# EAGLE library part WM8960CGEFL_V (library vikc-ic)
WOLFSON MICROELECTRONICS - WM8960CGEFL/V - AUDIO CODEC, 24BIT, 48KSPS, QFN-32 Source: Datasheet <https://componentsearchengine.com/Datasheets/2/WM8960CGEFL_V.pdf>
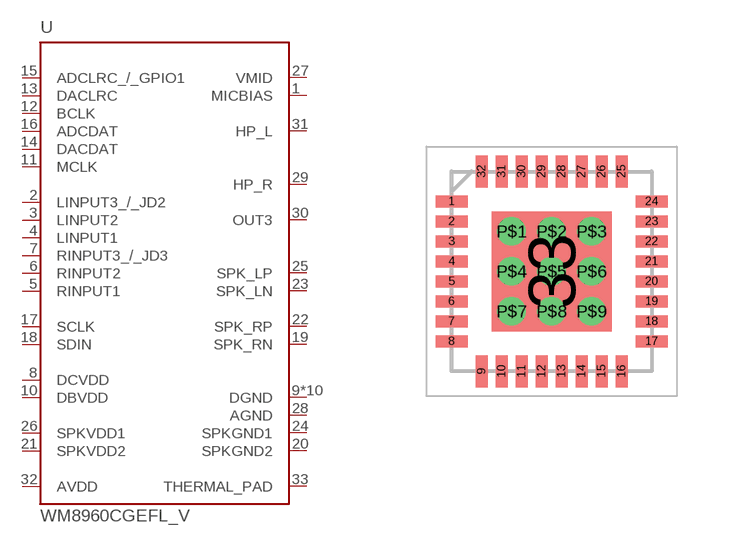
[diagram p8: symbol with the pads of QFN50P500X500X100-33N; footprint QFN50P500X500X100-33N]

Designator prefix U

## WM8960CGEFL_V (ARROW_PART_NUMBER: WM8960CGEFL/V; DESCRIPTION: WOLFSON MICROELECTRONICS - WM8960CGEFL/V - AUDIO CODEC, 24BIT, 48KSPS, QFN-32; HEIGHT: 1mm; MANUFACTURER_NAME: WOLFSON MICROELECTRONICS; MANUFACTURER_PART_NUMBER: WM8960CGEFL/V)  [QFN50P500X500X100-33N]
1  MICBIAS  out
2  LINPUT3_/_JD2  in
3  LINPUT2  in
4  LINPUT1  in
5  RINPUT1  in
6  RINPUT2  in
7  RINPUT3_/_JD3  in
8  DCVDD  pwr
9  DGND  pwr
10  DBVDD  pwr
11  MCLK  in
12  BCLK
13  DACLRC
14  DACDAT  in
15  ADCLRC_/_GPIO1
16  ADCDAT  out
17  SCLK  in
18  SDIN
19  SPK_RN  out
20  SPKGND2  pwr
21  SPKVDD2  pwr
22  SPK_RP  out
23  SPK_LN  out
24  SPKGND1  pwr
25  SPK_LP  out
26  SPKVDD1  pwr
27  VMID  out
28  AGND  pwr
29  HP_R  out
30  OUT3  out
31  HP_L  out
32  AVDD  pwr
33  THERMAL_PAD  pwr
P$1  DGND  pwr
P$2  DGND  pwr
P$3  DGND  pwr
P$4  DGND  pwr
P$5  DGND  pwr
P$6  DGND  pwr
P$7  DGND  pwr
P$8  DGND  pwr
P$9  DGND  pwr

## Footprint QFN50P500X500X100-33N (pad centres in mm)
WM8960
smd 0.8 x 0.3: 1 -2.5,1.75; 2 -2.5,1.25; 3 -2.5,0.75; 4 -2.5,0.25; 5 -2.5,-0.25; 6 -2.5,-0.75; 7 -2.5,-1.25; 8 -2.5,-1.75; 17 2.5,-1.75; 18 2.5,-1.25; 19 2.5,-0.75; 20 2.5,-0.25; 21 2.5,0.25; 22 2.5,0.75; 23 2.5,1.25; 24 2.5,1.75
smd 0.3 x 0.8: 9 -1.75,-2.5; 10 -1.25,-2.5; 11 -0.75,-2.5; 12 -0.25,-2.5; 13 0.25,-2.5; 14 0.75,-2.5; 15 1.25,-2.5; 16 1.75,-2.5; 25 1.75,2.5; 26 1.25,2.5; 27 0.75,2.5; 28 0.25,2.5; 29 -0.25,2.5; 30 -0.75,2.5; 31 -1.25,2.5; 32 -1.75,2.5
smd 3 x 3: 33 0,0
drill 0.2: P$1 -1,1; P$2 0,1; P$3 1,1; P$4 -1,0; P$5 0,0; P$6 1,0; P$7 -1,-1; P$8 0,-1; P$9 1,-1